# EAGLE library part NOKIA5110LCD (library CEDT_JANUARY_2015_v6)
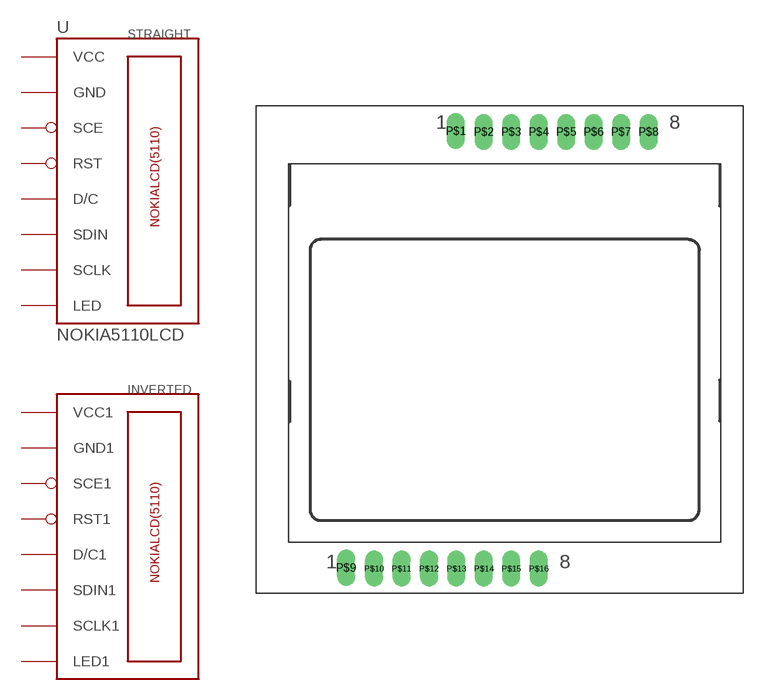
[diagram p82: symbol with the pads of NOKIA5110LCD; footprint NOKIA5110LCD]

Designator prefix -

## NOKIA5110LCD  [NOKIA5110LCD]
P$1  VCC  pwr
P$2  GND  pwr
P$3  SCE
P$4  RST
P$5  D/C
P$6  SDIN
P$7  SCLK
P$8  LED
P$9  VCC1  pwr
P$10  GND1  pwr
P$11  SCE1
P$12  RST1
P$13  D/C1
P$14  SDIN1
P$15  SCLK1
P$16  LED1

## Footprint NOKIA5110LCD (pad centres in mm)
drill 1 pad 1.676 long: P$1 18.365,43; P$2 20.955,42.926; P$3 23.495,42.926; P$4 26.035,42.926; P$5 28.575,42.926; P$6 31.115,42.926; P$7 33.655,42.926; P$8 36.195,42.926; P$9 8.205,2.614; P$10 10.795,2.54; P$11 13.335,2.54; P$12 15.875,2.54; P$13 18.415,2.54; P$14 20.955,2.54; P$15 23.495,2.54; P$16 26.035,2.54